# Altium footprint library MOLEX_1050170001.PcbLib: 1 footprints
Each footprint in its own frame and in the unit in brackets; x right, y up, seen from the top. Pads: shape width x height; smd on the part's side, far side on the other; paste and mask are expansions set on the pad; w line width, h text height; cw(c..) or ccw(c..) is an arc to the next point about the centre after c.
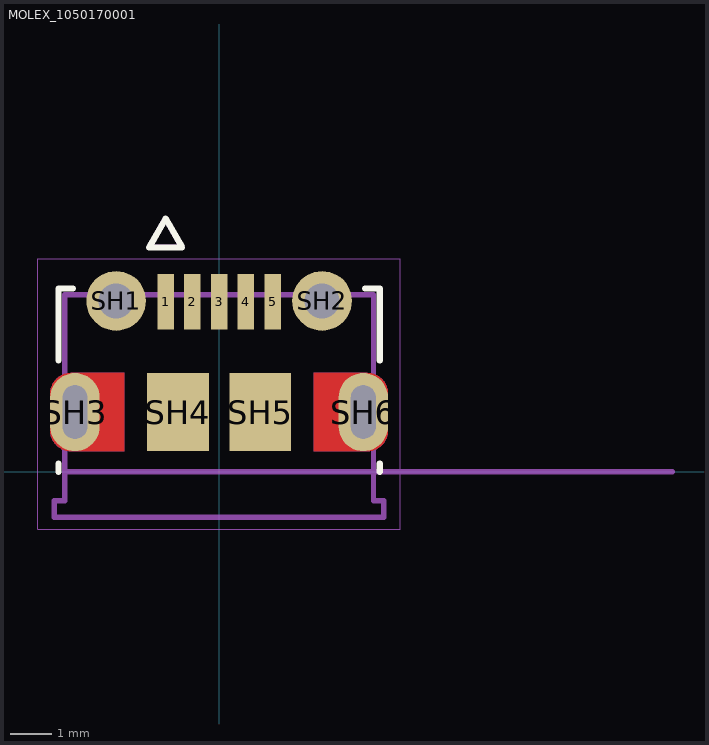
[diagram p0: the footprint, top view; thin cyan lines are the x and y axes]

## MOLEX_1050170001 [mm]
height 2.85
pads (11):
  rect 0.4x1.35 smd mask+0.064: 1(-1.3,4.125) 2(-0.65,4.125) 3(0,4.125) 4(0.65,4.125) 5(1.3,4.125)
  round 1.45 hole 0.85 mask+0.064: SH1(-2.5,4.15) SH2(2.5,4.15)
  oval 1.2x1.9 hole 0.6 slot 1.3 at 90 deg mask+0: SH3(-3.5,1.45) SH6(3.5,1.45)
  rect 1.5x1.9 smd mask+0.064: SH4(-1,1.45) SH5(1,1.45)
Top Layer:
  region: -2.3,0.5 -3.6,0.5 -3.626,0.501 -3.652,0.503 -3.678,0.506 -3.704,0.511 -3.729,0.517 -3.755,0.524 -3.779,0.533 -3.803,0.543 -3.827,0.554 -3.85,0.567 -3.872,0.581 -3.894,0.595 -3.915,0.611 -3.935,0.628 -3.954,0.646 -3.972,0.665 -3.989,0.685 -4.005,0.706 -4.019,0.728 -4.033,0.75 -4.046,0.773 -4.057,0.797 -4.067,0.821 -4.076,0.845 -4.083,0.871 -4.089,0.896 -4.094,0.922 -4.097,0.948 -4.099,0.974 -4.1,1 -4.1,1.9 -4.099,1.926 -4.097,1.952 -4.094,1.978 -4.089,2.004 -4.083,2.029 -4.076,2.055 -4.067,2.079 -4.057,2.103 -4.046,2.127 -4.033,2.15 -4.019,2.172 -4.005,2.194 -3.989,2.215 -3.972,2.235 -3.954,2.254 -3.935,2.272 -3.915,2.289 -3.894,2.305 -3.872,2.319 -3.85,2.333 -3.827,2.346 -3.803,2.357 -3.779,2.367 -3.755,2.376 -3.729,2.383 -3.704,2.389 -3.678,2.394 -3.652,2.397 -3.626,2.399 -3.6,2.4 -2.3,2.4
  region: 3.626,2.399 3.652,2.397 3.678,2.394 3.704,2.389 3.729,2.383 3.755,2.376 3.779,2.367 3.803,2.357 3.827,2.346 3.85,2.333 3.872,2.319 3.894,2.305 3.915,2.289 3.935,2.272 3.954,2.254 3.972,2.235 3.989,2.215 4.005,2.194 4.019,2.172 4.033,2.15 4.046,2.127 4.057,2.103 4.067,2.079 4.076,2.055 4.083,2.029 4.089,2.004 4.094,1.978 4.097,1.952 4.099,1.926 4.1,1.9 4.1,1 4.099,0.974 4.097,0.948 4.094,0.922 4.089,0.896 4.083,0.871 4.076,0.845 4.067,0.821 4.057,0.797 4.046,0.773 4.033,0.75 4.019,0.728 4.005,0.706 3.989,0.685 3.972,0.665 3.954,0.646 3.935,0.628 3.915,0.611 3.894,0.595 3.872,0.581 3.85,0.567 3.827,0.554 3.803,0.543 3.779,0.533 3.755,0.524 3.729,0.517 3.704,0.511 3.678,0.506 3.652,0.503 3.626,0.501 3.6,0.5 2.3,0.5 2.3,2.4 3.6,2.4
Bottom Layer:
  region: 3.626,2.399 3.652,2.397 3.678,2.394 3.704,2.389 3.729,2.383 3.755,2.376 3.779,2.367 3.803,2.357 3.827,2.346 3.85,2.333 3.872,2.319 3.894,2.305 3.915,2.289 3.935,2.272 3.954,2.254 3.972,2.235 3.989,2.215 4.005,2.194 4.019,2.172 4.033,2.15 4.046,2.127 4.057,2.103 4.067,2.079 4.076,2.055 4.083,2.029 4.089,2.004 4.094,1.978 4.097,1.952 4.099,1.926 4.1,1.9 4.1,1 4.099,0.974 4.097,0.948 4.094,0.922 4.089,0.896 4.083,0.871 4.076,0.845 4.067,0.821 4.057,0.797 4.046,0.773 4.033,0.75 4.019,0.728 4.005,0.706 3.989,0.685 3.972,0.665 3.954,0.646 3.935,0.628 3.915,0.611 3.894,0.595 3.872,0.581 3.85,0.567 3.827,0.554 3.803,0.543 3.779,0.533 3.755,0.524 3.729,0.517 3.704,0.511 3.678,0.506 3.652,0.503 3.626,0.501 3.6,0.5 2.3,0.5 2.3,2.4 3.6,2.4
  region: -2.3,0.5 -3.6,0.5 -3.626,0.501 -3.652,0.503 -3.678,0.506 -3.704,0.511 -3.729,0.517 -3.755,0.524 -3.779,0.533 -3.803,0.543 -3.827,0.554 -3.85,0.567 -3.872,0.581 -3.894,0.595 -3.915,0.611 -3.935,0.628 -3.954,0.646 -3.972,0.665 -3.989,0.685 -4.005,0.706 -4.019,0.728 -4.033,0.75 -4.046,0.773 -4.057,0.797 -4.067,0.821 -4.076,0.845 -4.083,0.871 -4.089,0.896 -4.094,0.922 -4.097,0.948 -4.099,0.974 -4.1,1 -4.1,1.9 -4.099,1.926 -4.097,1.952 -4.094,1.978 -4.089,2.004 -4.083,2.029 -4.076,2.055 -4.067,2.079 -4.057,2.103 -4.046,2.127 -4.033,2.15 -4.019,2.172 -4.005,2.194 -3.989,2.215 -3.972,2.235 -3.954,2.254 -3.935,2.272 -3.915,2.289 -3.894,2.305 -3.872,2.319 -3.85,2.333 -3.827,2.346 -3.803,2.357 -3.779,2.367 -3.755,2.376 -3.729,2.383 -3.704,2.389 -3.678,2.394 -3.652,2.397 -3.626,2.399 -3.6,2.4 -2.3,2.4
Top Overlay:
  lines w0.15: -3.9,2.7 -3.9,4.45 -3.55,4.45 ; 3.55,4.45 3.9,4.45 3.9,2.7 ; -1.7,5.45 -0.9,5.45 -1.3,6.15 -1.7,5.45
  lines w0.152: -3.9,0 -3.9,0.2 ; 3.9,0 3.9,0.2
Top Solder:
  region: -2.236,0.436 -2.237,0.436 -3.6,0.436 -3.629,0.437 -3.659,0.44 -3.688,0.443 -3.717,0.449 -3.746,0.456 -3.774,0.464 -3.802,0.474 -3.829,0.485 -3.856,0.498 -3.882,0.512 -3.907,0.527 -3.931,0.544 -3.955,0.562 -3.977,0.581 -3.998,0.602 -4.019,0.623 -4.038,0.645 -4.056,0.669 -4.073,0.693 -4.088,0.718 -4.102,0.744 -4.115,0.771 -4.126,0.798 -4.136,0.826 -4.144,0.854 -4.151,0.883 -4.157,0.912 -4.16,0.941 -4.163,0.971 -4.163,1 -4.163,1.9 -4.163,1.929 -4.16,1.959 -4.157,1.988 -4.151,2.017 -4.144,2.046 -4.136,2.074 -4.126,2.102 -4.115,2.129 -4.102,2.156 -4.088,2.182 -4.073,2.207 -4.056,2.231 -4.038,2.255 -4.019,2.277 -3.998,2.298 -3.977,2.319 -3.955,2.338 -3.931,2.356 -3.907,2.373 -3.882,2.388 -3.856,2.402 -3.829,2.415 -3.802,2.426 -3.774,2.436 -3.746,2.444 -3.717,2.451 -3.688,2.457 -3.659,2.46 -3.629,2.463 -2.236,2.463
  region: 3.659,2.46 3.688,2.457 3.717,2.451 3.746,2.444 3.774,2.436 3.802,2.426 3.829,2.415 3.856,2.402 3.882,2.388 3.907,2.373 3.931,2.356 3.955,2.338 3.977,2.319 3.998,2.298 4.019,2.277 4.038,2.255 4.056,2.231 4.073,2.207 4.088,2.182 4.102,2.156 4.115,2.129 4.126,2.102 4.136,2.074 4.144,2.046 4.151,2.017 4.157,1.988 4.16,1.959 4.163,1.929 4.163,1.9 4.163,1 4.163,0.971 4.16,0.941 4.157,0.912 4.151,0.883 4.144,0.854 4.136,0.826 4.126,0.798 4.115,0.771 4.102,0.744 4.088,0.718 4.073,0.693 4.056,0.669 4.038,0.645 4.019,0.623 3.998,0.602 3.977,0.581 3.955,0.562 3.931,0.544 3.907,0.527 3.882,0.512 3.856,0.498 3.829,0.485 3.802,0.474 3.774,0.464 3.746,0.456 3.717,0.449 3.688,0.443 3.659,0.44 3.629,0.437 3.6,0.436 2.237,0.436 2.236,0.436 2.236,2.463 3.629,2.463
Bottom Solder:
  region: 3.659,2.46 3.688,2.457 3.717,2.451 3.746,2.444 3.774,2.436 3.802,2.426 3.829,2.415 3.856,2.402 3.882,2.388 3.907,2.373 3.931,2.356 3.955,2.338 3.977,2.319 3.998,2.298 4.019,2.277 4.038,2.255 4.056,2.231 4.073,2.207 4.088,2.182 4.102,2.156 4.115,2.129 4.126,2.102 4.136,2.074 4.144,2.046 4.151,2.017 4.157,1.988 4.16,1.959 4.163,1.929 4.163,1.9 4.163,1 4.163,0.971 4.16,0.941 4.157,0.912 4.151,0.883 4.144,0.854 4.136,0.826 4.126,0.798 4.115,0.771 4.102,0.744 4.088,0.718 4.073,0.693 4.056,0.669 4.038,0.645 4.019,0.623 3.998,0.602 3.977,0.581 3.955,0.562 3.931,0.544 3.907,0.527 3.882,0.512 3.856,0.498 3.829,0.485 3.802,0.474 3.774,0.464 3.746,0.456 3.717,0.449 3.688,0.443 3.659,0.44 3.629,0.437 3.6,0.436 2.237,0.436 2.236,0.436 2.236,2.463 3.629,2.463
  region: -2.236,0.436 -2.237,0.436 -3.6,0.436 -3.629,0.437 -3.659,0.44 -3.688,0.443 -3.717,0.449 -3.746,0.456 -3.774,0.464 -3.802,0.474 -3.829,0.485 -3.856,0.498 -3.882,0.512 -3.907,0.527 -3.931,0.544 -3.955,0.562 -3.977,0.581 -3.998,0.602 -4.019,0.623 -4.038,0.645 -4.056,0.669 -4.073,0.693 -4.088,0.718 -4.102,0.744 -4.115,0.771 -4.126,0.798 -4.136,0.826 -4.144,0.854 -4.151,0.883 -4.157,0.912 -4.16,0.941 -4.163,0.971 -4.163,1 -4.163,1.9 -4.163,1.929 -4.16,1.959 -4.157,1.988 -4.151,2.017 -4.144,2.046 -4.136,2.074 -4.126,2.102 -4.115,2.129 -4.102,2.156 -4.088,2.182 -4.073,2.207 -4.056,2.231 -4.038,2.255 -4.019,2.277 -3.998,2.298 -3.977,2.319 -3.955,2.338 -3.931,2.356 -3.907,2.373 -3.882,2.388 -3.856,2.402 -3.829,2.415 -3.802,2.426 -3.774,2.436 -3.746,2.444 -3.717,2.451 -3.688,2.457 -3.659,2.46 -3.629,2.463 -2.236,2.463
Mechanical 2:
  text "'.Designator'" at 0,2.375 h0.7
Mechanical 12:
  text "PTH Slot 1.3 +/- 0.05 X 0.6 +/- 0.05" at -4.445,8.28 h0.5
  text "PTH 0.85 +/- 0.05" at -4.445,8.915 h0.5
Mechanical 13:
  lines w0.13: 11,0 -3.75,0 ; -3.75,0 -3.75,4.3 3.75,4.3 3.75,-0.7 4,-0.7 4,-1.1 -4,-1.1 -4,-0.7 -3.75,-0.7 -3.75,0 ; -1.7,5.45 -0.9,5.45 -1.3,6.15 -1.7,5.45
  text "PCB Edge" at 4.5,0.2 h1
Mechanical 15:
  lines w0.01: -4.4,-1.4 -4.4,5.175 4.4,5.175 4.4,-1.4 -4.4,-1.4